# EAGLE library part 1792928 (library lichtenstein_onion)
PCB terminal block - PTS 1,5/ 8-5,0-H - 1792928 Footprint Proven Information <https://www.phoenixcontact.com/online/portal/us?uri=pxc-oc-itemdetail:pid=1792928&library=usen&pdfmode=direct&pdflanguage=en>
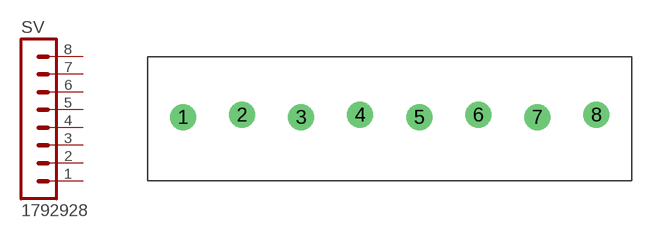
[diagram p9: symbol with the pads of 1792928; footprint 1792928]

Designator prefix SV

## 1792928 (MOUSER: 651-1792928)  [1792928]
1  1  pas
2  2  pas
3  3  pas
4  4  pas
5  5  pas
6  6  pas
7  7  pas
8  8  pas

## Footprint 1792928 (pad centres in mm)
drill 1.2 pad 2.2: 1 0,-0.1; 2 5,0.1; 3 10,-0.1; 4 15,0.1; 5 20,-0.1; 6 25,0.1; 7 30,-0.1; 8 35,0.1